# Altium footprint library PcbLib.PcbLib: 2 footprints
Each footprint in its own frame and in the unit in brackets; x right, y up, seen from the top. Pads: shape width x height; smd on the part's side, far side on the other; paste and mask are expansions set on the pad; w line width, h text height; cw(c..) or ccw(c..) is an arc to the next point about the centre after c.
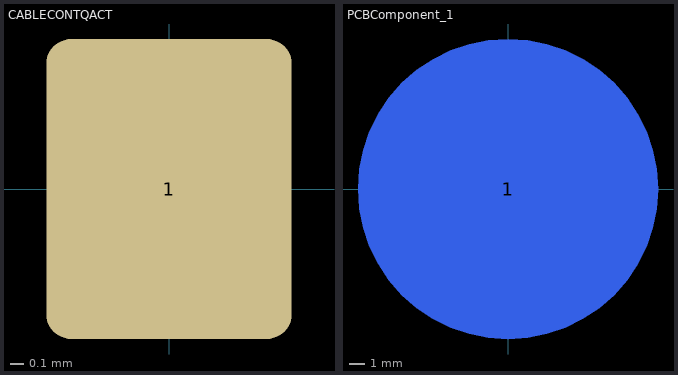
[diagram p0: the footprints below, top view; thin cyan lines are the x and y axes]

## CABLECONTQACT [mm]
pads (1):
  rrect20% 1.8x2.2 smd mask+0: 1(0,0)

## PCBComponent_1 [mm]
pads (1):
  round 19 smd far side mask+0.5: 1(0,0)